# Altium footprint library TTN_Gateway_V2.3.1.PcbLib: 36 footprints (part 1 of 3)
Each footprint in its own frame and in the unit in brackets; x right, y up, seen from the top. Pads: shape width x height; smd on the part's side, far side on the other; paste and mask are expansions set on the pad; w line width, h text height; cw(c..) or ccw(c..) is an arc to the next point about the centre after c.
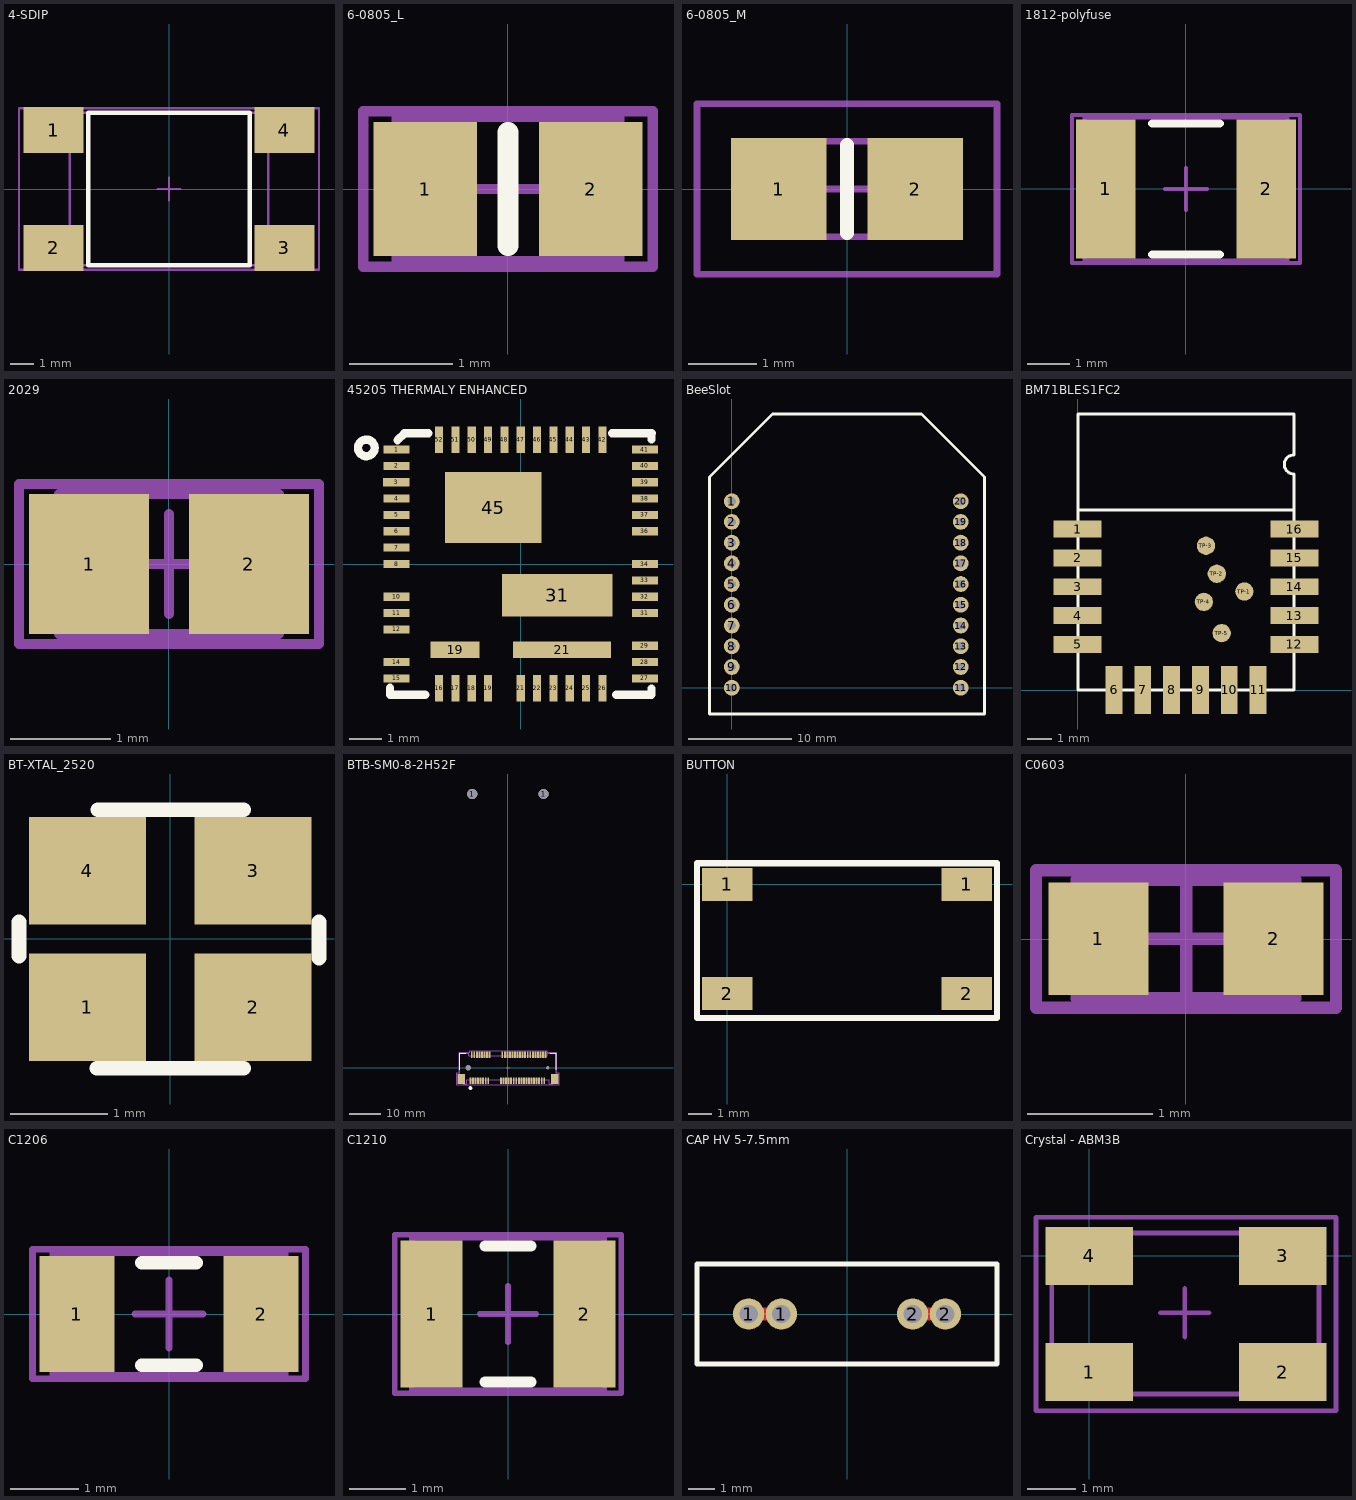
[diagram p0: the footprints below, top view; thin cyan lines are the x and y axes]

## 4-SDIP [mm]
pads (4):
  rect 2.6x2 smd: 1(-5,2.55) 2(-5,-2.55) 3(5,-2.55) 4(5,2.55)
Top Overlay:
  lines w0.2: -3.5,-3.3 3.5,-3.3 3.5,3.3 -3.5,3.3 -3.5,-3.3
Mechanical 13:
  lines w0.1: -4.3,-3.3 -4.3,3.3 4.3,3.3 4.3,-3.3 -4.3,-3.3
Mechanical 15:
  lines w0.1: -0.5,0 0.5,0 ; 0,-0.5 0,0.5 ; -6.5,-3.5 -6.5,3.5 6.5,3.5 6.5,-3.5 -6.5,-3.5
3D body: height 2.6, standoff 0.33, extent -4.25,-3.25 4.25,3.25

## 6-0805_L [mm]
pads (2):
  rect 1x1.3 smd: 1(-0.8,0) 2(0.8,0)
Top Overlay:
  lines w0.2: 0,-0.55 0,0.55
Mechanical 13:
  lines w0.1: -1.075,-0.7 1.075,-0.7 1.075,0.7 -1.075,0.7 -1.075,-0.7
Mechanical 15:
  lines w0.1: -0.5,0 0.5,0 ; 0,-0.5 0,0.5 ; -1.4,-0.75 1.4,-0.75 1.4,0.75 -1.4,0.75 -1.4,-0.75
3D body: height 0.7, standoff 0, extent -1.075,-0.7 1.075,0.7

## 6-0805_M [mm]
pads (2):
  rect 1.4x1.5 smd: 1(-1,0) 2(1,0)
Top Overlay:
  lines w0.2: 0,-0.65 0,0.65
Mechanical 13:
  lines w0.1: -1.075,-0.7 -1.075,0.7 1.075,0.7 1.075,-0.7 -1.075,-0.7
Mechanical 15:
  lines w0.1: -0.5,0 0.5,0 ; 0,-0.5 0,0.5 ; -2.2,-1.25 -2.2,1.25 2.2,1.25 2.2,-1.25 -2.2,-1.25
3D body: height 0.7, standoff 0, extent -1.075,-0.7 1.075,0.7

## 1812-polyfuse [mm]
pads (2):
  rect 1.4x3.3 smd: 1(-1.9,0) 2(1.9,0)
Top Overlay:
  lines w0.2: -0.8,-1.55 0.8,-1.55 ; -0.8,1.55 0.8,1.55
Mechanical 13:
  lines w0.1: -2.4,-1.7 2.4,-1.7 2.4,1.7 -2.4,1.7 -2.4,-1.7
Mechanical 15:
  lines w0.1: -0.5,0 0.5,0 ; 0,-0.5 0,0.5 ; -2.7,-1.75 2.7,-1.75 2.7,1.75 -2.7,1.75 -2.7,-1.75
3D body: height 1.4, standoff 0, extent -2.4,-1.7 2.4,1.7

## 2029 [mm]
pads (2):
  rect 1.2x1.4 smd: 1(-0.8,0) 2(0.8,0)
Mechanical 13:
  lines w0.1: -1.1,-0.7 -1.1,0.7 1.1,0.7 1.1,-0.7 -1.1,-0.7
Mechanical 15:
  lines w0.1: -0.5,0 0.5,0 ; 0,-0.5 0,0.5 ; -1.5,-0.8 -1.5,0.8 1.5,0.8 1.5,-0.8 -1.5,-0.8
3D body: height 0.55, standoff 0, extent -1.1,-0.7 1.1,0.7

## 45205 THERMALY ENHANCED [mm]
pads (55):
  rect 0.8x0.25 smd mask+0.051: 1(-3.795,3.5) 2(-3.795,3) 3(-3.805,2.5) 4(-3.795,2) 5(-3.795,1.5)
  rect 0.8x0.25 smd mask+0.052: 6(-3.795,1) 8(-3.795,0) 10(-3.795,-1) 12(-3.795,-2) 14(-3.795,-3) 15(-3.795,-3.5) 27(3.805,-3.5) 28(3.805,-3) 29(3.805,-2.5) 31(3.805,-1.5) 32(3.805,-1) 33(3.805,-0.5) 34(3.805,0) 36(3.805,1) 37(3.805,1.5) 38(3.805,2) 39(3.805,2.5) 40(3.805,3) 41(3.805,3.5)
  rect 0.8x0.25 smd paste-0.254 mask+0.052: 7(-3.795,0.5) 11(-3.795,-1.5)
  rect 0x0 smd paste-0.254 mask-0.254: 7(-3.795,0.5) 11(-3.795,-1.5) 22(0.505,-3.8) ""(0.505,3.8)
  rect 0.25x0.8 smd mask+0.052: 16(-2.495,-3.8) 17(-1.995,-3.8) 18(-1.495,-3.8) 19(-0.995,-3.8) 21(0.005,-3.8) 23(1.005,-3.8) 24(1.505,-3.8) 25(2.005,-3.8) 26(2.505,-3.8) 42(2.505,3.8) 43(2.005,3.8) 44(1.505,3.8) 45(1.005,3.8) 46(0.505,3.8) 47(0.005,3.8) 48(-0.495,3.8) 49(-0.995,3.8) 50(-1.495,3.8) 51(-1.995,3.8) 52(-2.495,3.8)
  rect 1.5x0.5 smd mask+0.051: 19(-2,-2.625)
  rect 3x0.5 smd mask+0.051: 21(1.27,-2.625)
  rect 0.25x0.8 smd paste-0.254 mask+0.052: 22(0.505,-3.8)
  rect 3.375x1.3 smd mask+0.051: 31(1.12,-0.95)
  rect 2.946x2.184 smd mask+0.051: 45(-0.838,1.727)
Top Overlay:
  circle w0.254: c-4.721,3.553 r0.254
  lines w0.254: -3.995,-3.782 -3.995,-4 -2.916,-4 ; -3.767,3.791 -3.558,3.999 ; -3.552,4 -2.82,4 ; 2.799,4 4.013,4 ; 2.926,-4 3.965,-4 ; 4.005,-4 4.005,-3.81 ; 4.005,3.81 4.005,4
3D body: height 3, standoff 0, extent -4.025,-4 4,4

## BeeSlot [mil]
pads (20):
  round 60 hole 31.5: 1(0,708.66) 2(0,629.92) 3(0,551.18) 4(0,472.44) 5(0,393.7) 6(0,314.96) 7(0,236.22) 8(0,157.48) 9(0,78.74) 10(0,0) 11(870,0) 12(870,78.74) 13(870,157.48) 14(870,236.22) 15(870,314.96) 16(870,393.7) 17(870,472.44) 18(870,551.18) 19(870,629.92) 20(870,708.66)
Top Overlay:
  lines w10: 240,1040 665,1040 ; 960,740 960,800 720,1040 155,1040 -85,800 -85,715 -85,-100 960,-100 960,795
3D body "XBee Chip.STEP": height 137.8, standoff -157.48, extent -44.57,-84.21 920,1014.21

## BM71BLES1FC2 [mm]
pads (21):
  rect 2x0.7 smd: 1(-0.009,6.706) 2(-0.009,5.506) 3(-0.009,4.306) 4(-0.009,3.106) 5(-0.009,1.906) 12(9.016,1.906) 13(9.016,3.106) 14(9.016,4.306) 15(9.016,5.506) 16(9.016,6.706)
  rect 0.7x2 smd: 6(1.506,0.009) 7(2.706,0.009) 8(3.906,0.009) 9(5.106,0.009) 10(6.306,0.009) 11(7.506,0.009)
  round 0.762 smd: TP-1(6.934,4.109) TP-2(5.786,4.847) TP-3(5.334,6.014) TP-4(5.249,3.677) TP-5(5.989,2.376)
Top Overlay:
  lines w0.127: 9,7.5 0,7.5 ; 0,7.5 0,0 9,0 9,9 cw(c9,9.4) 9,9.8 9,11.5 7,11.5 0,11.5 0,7.5
3D body: height 1.2, standoff 0.6, extent 0.5,9.375 5.25,11
3D body: height 0.6, standoff 0, extent 0,0 9,11.5
3D body: height 1.5, standoff 0.6, extent 0.75,0.75 8.25,7.5

## BT-XTAL_2520 [mm]
pads (4):
  rect 1.2x1.1 smd: 1(-0.85,-0.7) 2(0.85,-0.7) 3(0.85,0.7) 4(-0.85,0.7)
Top Overlay:
  lines w0.152: -1.55,-0.175 -1.55,0.175 ; -0.75,-1.325 0.75,-1.325 ; -0.74,1.325 0.75,1.325 ; 1.525,-0.195 1.525,0.175
3D body "User Library-GeyerElectronics_KX6.step": height 0.56, standoff 0, extent -1.25,-1 1.27,1
3D body: height 0.56, standoff 0.15, extent -1.05,-0.8 1.05,0.8

## BTB-SM0-8-2H52F [mm]
pads (58):
  rect 0.6x2 smd: 1(-11.8,-4.1) 2(-11.4,4.1) 3(-11,-4.1) 4(-10.6,4.1) 5(-10.2,-4.1) 6(-9.8,4.1) 7(-9.4,-4.1) 8(-9,4.1) 9(-8.6,-4.1) 10(-8.2,4.1) 11(-7.8,-4.1) 12(-7.4,4.1) 13(-7,-4.1) 14(-6.6,4.1) 15(-6.2,-4.1) 16(-5.8,4.1) 17(-2.2,-4.1) 18(-1.8,4.1) 19(-1.4,-4.1) 20(-1,4.1) 21(-0.6,-4.1) 22(-0.2,4.1) 23(0.2,-4.1) 24(0.6,4.1) 25(1,-4.1) 26(1.4,4.1) 27(1.8,-4.1) 28(2.2,4.1) 29(2.6,-4.1) 30(3,4.1) 31(3.4,-4.1) 32(3.8,4.1) 33(4.2,-4.1) 34(4.6,4.1) 35(5,-4.1) 36(5.4,4.1) 37(5.8,-4.1) 38(6.2,4.1) 39(6.6,-4.1) 40(7,4.1) 41(7.4,-4.1) 42(7.8,4.1) 43(8.2,-4.1) 44(8.6,4.1) 45(9,-4.1) 46(9.4,4.1) 47(9.8,-4.1) 48(10.2,4.1) 49(10.6,-4.1) 50(11,4.1) 51(11.4,-4.1) 52(11.8,4.1)
  round 3.175 hole 3.175: 1(-11.225,86.025) 1(11.185,86.025)
  round 1.3 hole 1.6 unplated: MH1(-12.5,0)
  round 0.8 hole 1.1 unplated: MH2(12.5,0)
  rect 2.3x3.2 smd: MP1(-14.65,-3.5) MP2(14.65,-3.5)
Top Overlay:
  circle w0.6: c-11.815,-6.388 r0.3
  lines w0.2: -15.125,-0.633 -15.125,4.6 -14.907,4.6 -13.338,4.6 ; 13.329,4.6 15.125,4.6 ; 15.125,-0.645 15.125,4.535
Mechanical 13:
  lines w0.1: -15.125,-3.8 -14.025,-3.8 ; -15.125,-3.798 -15.125,4.6 -14.907,4.6 -12.375,4.6 -12.375,3.799 ; -14.027,-5 -13,-5 -13,-3.8 13,-3.8 13,-5 14.01,-5 14.025,-4.985 14.025,-3.804 ; -14.025,-5 -14.025,-3.822 ; -12.375,3.8 12.375,3.8 12.375,4.601 ; 12.375,4.6 15.125,4.6 15.125,4.535 15.125,-3.796 ; 14.025,-3.8 15.125,-3.8
Mechanical 15:
  lines w0.1: -0.5,0 0.5,0 ; 0,-0.5 0,0.5 ; -16.05,-5.35 16.05,-5.35 16.05,-1.65 15.375,-1.65 15.375,4.85 12.35,4.85 12.35,5.35 -11.95,5.35 -11.95,4.85 -15.375,4.85 -15.375,-1.65 -16.05,-1.65 -16.05,-5.35
3D body: height 0.82, standoff 0.2, extent 12.35,3.8 15,4.5
3D body: height 0.82, standoff 0.2, extent 15,4.5 15,4.5
3D body: height 0.82, standoff 0.2, extent -15,3.7 -12.35,4.5
3D body: height 1.34, standoff 0.69, extent 12.1,-4.25 13.79,-3.7
3D body: height 1.34, standoff 0.69, extent -13.79,-4.25 -12.1,-3.7
3D body: height 5.6, standoff 4.54, extent -13.79,-5 -12.1,-3.7
3D body: height 5.6, standoff 4.54, extent 12.1,-5 13.79,-3.7
3D body: height 5.6, standoff 3.12, extent -15,-3.7 15,3.677
3D body: height 3.12, standoff 0, extent -15,-3.7 15,3.8
3D body: height 5, standoff 4, extent -15.045,1.845 15.005,91.84

## BUTTON [mm]
pads (4):
  rect 2.1x1.4 smd: 1(0,0) 1(10.033,0) 2(0,-4.572) 2(10.033,-4.572)
Top Overlay:
  lines w0.254: -1.27,-5.588 -1.27,0.889 11.303,0.889 11.303,-5.588 -1.27,-5.588
3D body: height 2, standoff 0, extent 1.143,-5.334 8.89,0.762
3D body: height 3, standoff 2, extent 3.032,-4.282 7.016,-0.29

## C0603 [mm]
pads (2):
  rect 0.8x0.9 smd: 1(-0.7,0) 2(0.7,0)
Mechanical 13:
  lines w0.1: -0.875,-0.475 0.875,-0.475 0.875,0.475 -0.875,0.475 -0.875,-0.475
Mechanical 15:
  lines w0.1: -0.475,0 0.475,0 ; 0,-0.475 0,0.475 ; -1.2,-0.55 1.2,-0.55 1.2,0.55 -1.2,0.55 -1.2,-0.55
3D body: height 1.3, standoff 0, extent -0.875,-0.475 0.875,0.475

## C1206 [mm]
pads (2):
  rect 1.1x1.7 smd: 1(-1.35,0) 2(1.35,0)
Top Overlay:
  lines w0.2: -0.4,-0.75 0.4,-0.75 ; -0.4,0.75 0.4,0.75
Mechanical 13:
  lines w0.1: -1.7,-0.9 1.7,-0.9 1.7,0.9 -1.7,0.9 -1.7,-0.9
Mechanical 15:
  lines w0.1: -0.5,0 0.5,0 ; 0,-0.5 0,0.5 ; -2,-0.95 2,-0.95 2,0.95 -2,0.95 -2,-0.95
3D body: height 1.3, standoff 0, extent -1.7,-0.9 1.7,0.9

## C1210 [mm]
pads (2):
  rect 1.1x2.6 smd: 1(-1.35,0) 2(1.35,0)
Top Overlay:
  lines w0.2: -0.4,-1.2 0.4,-1.2 ; -0.4,1.2 0.4,1.2
Mechanical 13:
  lines w0.1: -1.7,-1.35 1.7,-1.35 1.7,1.35 -1.7,1.35 -1.7,-1.35
Mechanical 15:
  lines w0.1: -0.5,0 0.5,0 ; 0,-0.5 0,0.5 ; -2,-1.4 2,-1.4 2,1.4 -2,1.4 -2,-1.4
3D body: height 1.3, standoff 0, extent -1.7,-1.35 1.7,1.35

## CAP HV 5-7.5mm [mm]
pads (4):
  round 1.2 hole 0.7: 1(-3.75,0) 1(-2.5,0) 2(2.5,0) 2(3.75,0)
Top Layer:
  lines w0.5: -3.725,0 -2.475,0 ; 2.5,0 3.775,0
Top Overlay:
  lines w0.2: -5.715,-1.905 5.715,-1.905 5.715,1.905 -5.715,1.905 -5.715,-1.905

## Crystal - ABM3B [mm]
pads (4):
  rect 1.8x1.2 smd: 1(0,-2.4) 2(4,-2.4) 3(4,0) 4(0,0)
Mechanical 13:
  lines w0.1: -0.775,-2.85 4.75,-2.85 4.75,0.475 -0.775,0.475 -0.775,-2.85
Mechanical 15:
  lines w0.1: 1.475,-1.175 2.475,-1.175 ; 1.975,-1.675 1.975,-0.675 ; -1.1,-3.2 5.1,-3.2 5.1,0.8 -1.1,0.8 -1.1,-3.2
3D body: height 1.1, standoff 0, extent -0.775,-2.85 4.75,0.475